# EAGLE library part ADS8332 (library CYCFI_data_conv)
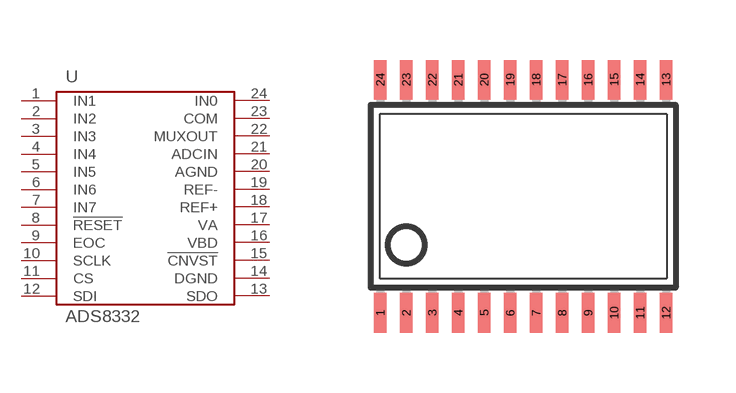
[diagram p0: symbol with the pads of TSSOP-24; footprint TSSOP-24]

Designator prefix -

## ADS8332  [TSSOP-24]
1  IN1
2  IN2
3  IN3
4  IN4
5  IN5
6  IN6
7  IN7
8  !RESET
9  EOC
10  SCLK
11  CS
12  SDI
13  SDO
14  DGND
15  !CNVST
16  VBD
17  VA
18  REF+
19  REF-
20  AGND
21  ADCIN
22  MUXOUT
23  COM
24  IN0

## Footprint TSSOP-24 (pad centres in mm)
smd 0.305 x 0.991: 1 -3.575,-2.918; 2 -2.925,-2.918; 3 -2.275,-2.918; 4 -1.625,-2.918; 5 -0.975,-2.918; 6 -0.325,-2.918; 7 0.325,-2.918; 8 0.975,-2.918; 9 1.625,-2.918; 10 2.275,-2.918; 11 2.925,-2.918; 12 3.575,-2.918; 13 3.575,2.918; 14 2.925,2.918; 15 2.275,2.918; 16 1.625,2.918; 17 0.975,2.918; 18 0.325,2.918; 19 -0.325,2.918; 20 -0.975,2.918; 21 -1.625,2.918; 22 -2.275,2.918; 23 -2.925,2.918; 24 -3.575,2.918